# EAGLE library part ADG508FBN (library EW_00_Ken)
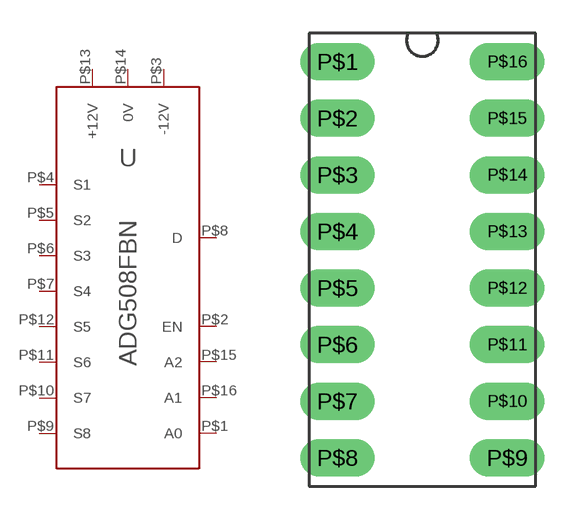
[diagram p1: symbol with the pads of DIL_SOCKET_16_PIN; footprint DIL_SOCKET_16_PIN]

Designator prefix U

## ADG508FBN  [DIL_SOCKET_16_PIN]
P$1  A0
P$2  EN
P$3  -12V  pwr
P$4  S1
P$5  S2
P$6  S3
P$7  S4
P$8  D
P$9  S8
P$10  S7
P$11  S6
P$12  S5
P$13  +12V  pwr
P$14  0V  pwr
P$15  A2
P$16  A1

## Footprint DIL_SOCKET_16_PIN (pad centres in mm)
drill 0.6 pad 1.676 long: P$1 -3.81,8.89; P$2 -3.81,6.35; P$3 -3.81,3.81; P$4 -3.81,1.27; P$5 -3.81,-1.27; P$6 -3.81,-3.81; P$7 -3.81,-6.35; P$8 -3.81,-8.89; P$9 3.81,-8.89; P$10 3.81,-6.35; P$11 3.81,-3.81; P$12 3.81,-1.27; P$13 3.81,1.27; P$14 3.81,3.81; P$15 3.81,6.35; P$16 3.81,8.89